# Altium schematic symbol library Feb_MURATA_BLM15AX300SZ1D_30.SchLib: 1 symbol
Pins are listed as number, name and electrical type; pins without a type are passive.

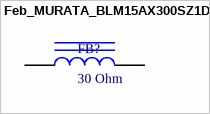
[diagram p0: symbol Feb_MURATA_BLM15AX300SZ1D_30]

## Feb_MURATA_BLM15AX300SZ1D_30
designator FB?, comment 30 Ohm
Feb SMD 30 OHM 25% 3/4W 0402; Supplier 1: Mouser; Supplier Part Number 1: 81-BLM15AX300SZ1D
footprint Feb_MURATA_BLM15AX300SZ1D_30
pins: 1, 2